# Altium footprint library ol-c-212H.PcbLib: 1 footprints
Each footprint in its own frame and in the unit in brackets; x right, y up, seen from the top. Pads: shape width x height; smd on the part's side, far side on the other; paste and mask are expansions set on the pad; w line width, h text height; cw(c..) or ccw(c..) is an arc to the next point about the centre after c.
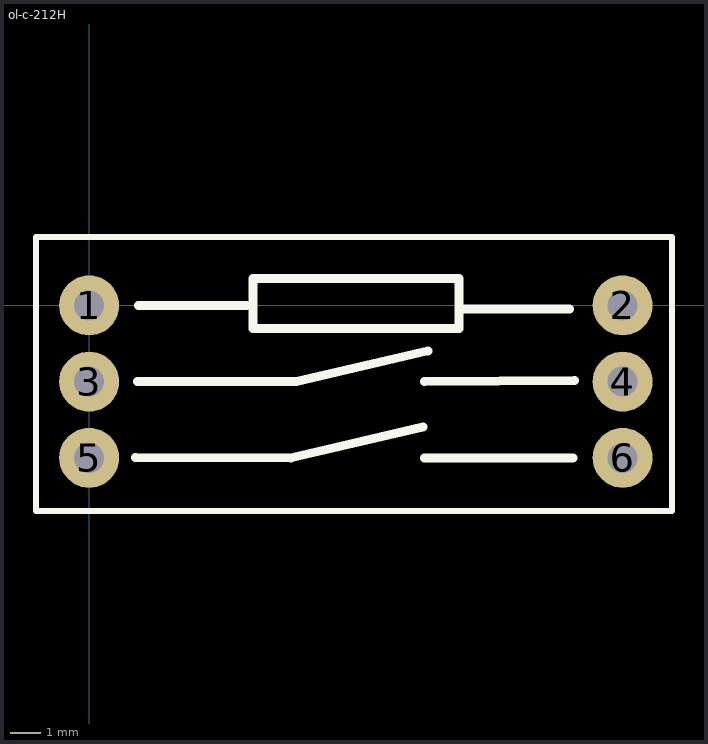
[diagram p0: the footprint, top view; thin cyan lines are the x and y axes]

## ol-c-212H [mm]
pads (6):
  round 2 hole 1: 1(0,0) 2(17.78,0) 3(0,-2.54) 4(17.78,-2.54) 5(0,-5.08) 6(17.78,-5.08)
Top Overlay:
  lines w0.203: -1.778,-6.858 -1.778,2.286 19.431,2.286 19.431,-6.858 16.002,-6.858 -1.778,-6.858
  lines w0.3: 1.544,-5.069 6.731,-5.08 11.12,-4.052 ; 1.617,-2.54 6.911,-2.54 11.3,-1.512 ; 1.651,0 5.241,0 ; 11.176,-5.08 13.436,-5.08 15.231,-5.08 16.129,-5.08 ; 11.176,-2.54 16.168,-2.5 ; 12.412,-0.127 16.002,-0.127 ; 5.461,-0.762 12.319,-0.762 12.319,0.889 5.862,0.889 5.461,0.889 5.461,-0.762